# EAGLE library part RS485 (library MyLib)
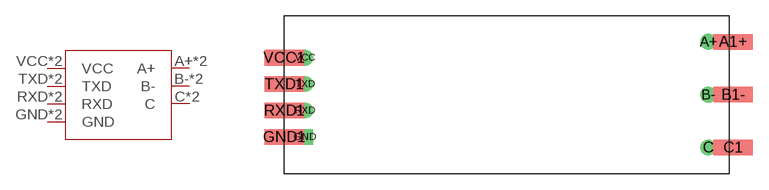
[diagram p0: symbol with the pads of RS485_2; footprint RS485_2]

Designator prefix -

## RS485  [RS485_2]
A1+  A+
A+  A+
B1-  B-
B-  B-
C  C
C1  C
GND  GND
GND1  GND
RXD  RXD
RXD1  RXD
TXD  TXD
TXD1  TXD
VCC  VCC
VCC1  VCC

## Footprint RS485_2 (pad centres in mm)
smd 3.81 x 1.5: A1+ 43.18,12.7; B1- 43.18,7.62; C1 43.18,2.54; GND1 0,3.55; RXD1 0,6.09; TXD1 0,8.63; VCC1 0,11.17
drill 1: A+ 40.8,12.7; B- 40.8,7.62; C 40.8,2.54; RXD 2,6.09; TXD 2,8.63; VCC 2,11.17
drill 1 square: GND 2,3.55